# Altium footprint library SMD_TF_H265.PcbLib: 1 footprints
Each footprint in its own frame and in the unit in brackets; x right, y up, seen from the top. Pads: shape width x height; smd on the part's side, far side on the other; paste and mask are expansions set on the pad; w line width, h text height; cw(c..) or ccw(c..) is an arc to the next point about the centre after c.
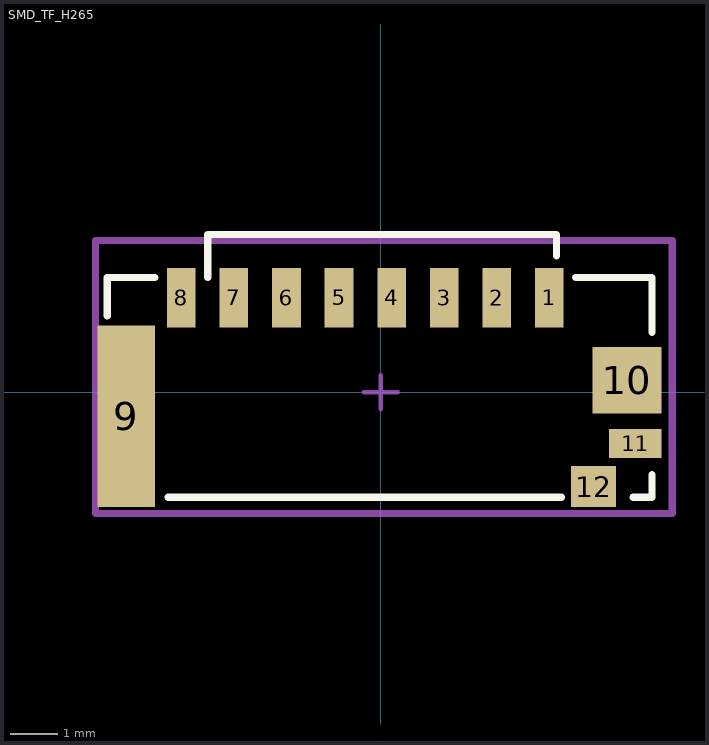
[diagram p0: the footprint, top view; thin cyan lines are the x and y axes]

## SMD_TF_H265 [mm]
pads (12):
  rect 0.6x1.25 smd: 1(3.525,1.975) 2(2.425,1.975) 3(1.325,1.975) 4(0.225,1.975) 5(-0.875,1.975) 6(-1.975,1.975) 7(-3.075,1.975) 8(-4.175,1.975)
  rect 1.2x3.79 smd: 9(-5.325,-0.505)
  rect 1.45x1.4 smd: 10(5.15,0.25)
  rect 1.1x0.6 smd: 11(5.325,-1.075)
  rect 0.95x0.85 smd: 12(4.45,-1.975)
Top Overlay:
  lines w0.152: -5.725,1.6 -5.725,2.4 -4.725,2.4 ; -4.45,-2.2 3.775,-2.2 ; -3.625,2.4 -3.625,3.3 3.675,3.3 3.675,2.85 ; 4.075,2.4 5.675,2.4 5.675,1.25 ; 5.275,-2.2 5.675,-2.2 5.675,-1.725
Top Designator:
  text ".Designator" at -7.618,-0.406 h1.52
Top Courtyard:
  lines w0.152: -5.969,-2.54 -5.969,3.175 6.096,3.175 6.096,-2.54 -5.969,-2.54
Top Component Center:
  lines w0.1: -0.353,0 0.353,0 ; 0,-0.353 0,0.353
3D body "3.stp": height 2.27, standoff -0.02, extent -5.705,-2.34 5.695,3.11